# EAGLE library part ATTINY1614-SSNR (library ATTINY1614-SSNR)
20MHz, SOIC, 85C, Green, 14 SOIC .150in T/R
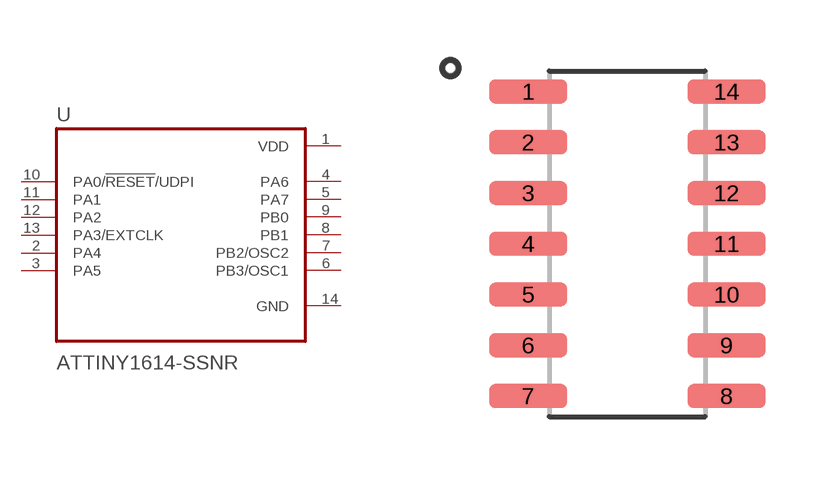
[diagram p0: symbol with the pads of SOIC127P600X175-14N; footprint SOIC127P600X175-14N]

Designator prefix U

## ATTINY1614-SSNR (Arrow_Electronics-Purchase-URL: https://snapeda.com/shop?store=Arrow+Electronics&id=4817174; Availability: Unavailable; Description: IC MCU 8BIT 16KB FLASH 14SOIC; DigiKey-Purchase-URL: https://snapeda.com/shop?store=DigiKey&id=4817174; MF: Microchip Technology; MP: ATTINY1614-SSNR; Mouser-Purchase-URL: https://snapeda.com/shop?store=Mouser&id=4817174; Package: None; Price: None)  [SOIC127P600X175-14N]
1  VDD  pwr
2  PA4
3  PA5
4  PA6
5  PA7
6  PB3/OSC1
7  PB2/OSC2
8  PB1
9  PB0
10  PA0/!RESET!/UDPI
11  PA1
12  PA2
13  PA3/EXTCLK
14  GND  pwr

## Footprint SOIC127P600X175-14N (pad centres in mm)
smd 1.95 x 0.59: 1 -2.48,3.81; 2 -2.48,2.54; 3 -2.48,1.27; 4 -2.48,0; 5 -2.48,-1.27; 6 -2.48,-2.54; 7 -2.48,-3.81; 8 2.48,-3.81; 9 2.48,-2.54; 10 2.48,-1.27; 11 2.48,0; 12 2.48,1.27; 13 2.48,2.54; 14 2.48,3.81